# Altium footprint library BC817W.PcbLib: 3 footprints
Each footprint in its own frame and in the unit in brackets; x right, y up, seen from the top. Pads: shape width x height; smd on the part's side, far side on the other; paste and mask are expansions set on the pad; w line width, h text height; cw(c..) or ccw(c..) is an arc to the next point about the centre after c.
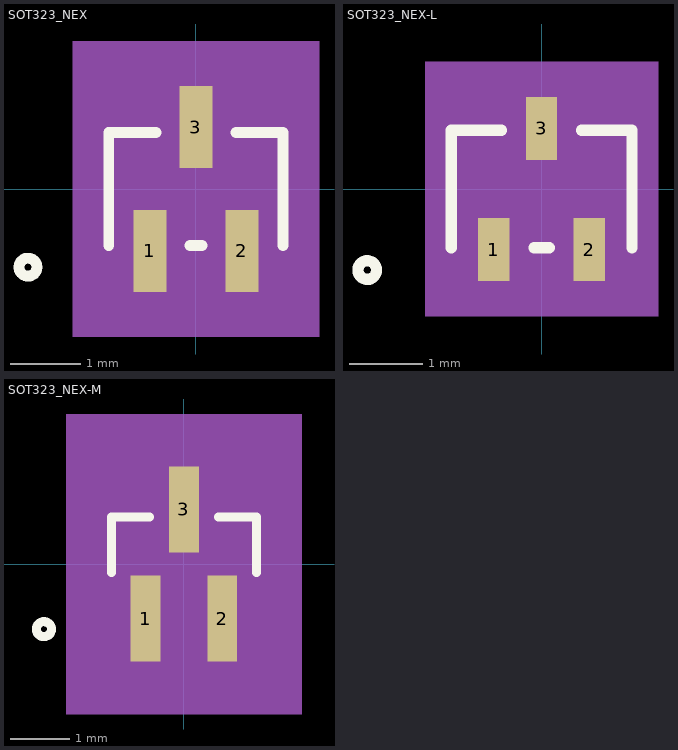
[diagram p0: the footprints below, top view; thin cyan lines are the x and y axes]

## SOT323_NEX [mil]
pads (3):
  rect 18.36x45.56 smd paste+0 mask+0: 1(-25.59,-34.5) 2(25.59,-34.5) 3(0,34.5)
Top Overlay:
  circle w6: c-93.5,-43.5 r5
  lines w6: -48.5,-31.5 -48.5,31.5 -22.28,31.5 ; -3.31,-31.5 3.31,-31.5 ; 22.28,31.5 48.5,31.5 48.5,-31.5
Mechanical 5:
  region: -68.5,82.28 68.5,82.28 68.5,-82.28 -68.5,-82.28
Mechanical 13:
  circle w0: c-33.5,-16.5 r5
  lines w1: -43.5,-26.5 43.5,-26.5 43.5,26.5 -43.5,26.5 -43.5,-26.5 ; -33.59,-43.5 -33.59,-26.5 -17.59,-26.5 -17.59,-43.5 -33.59,-43.5 ; -8,26.5 8,26.5 8,43.5 -8,43.5 -8,26.5 ; 17.59,-43.5 17.59,-26.5 33.59,-26.5 33.59,-43.5 17.59,-43.5
Mechanical 15:
  region: -53.5,-36.5 -53.5,36.5 -19.18,36.5 -19.18,67.28 19.18,67.28 19.18,36.5 53.5,36.5 53.5,-36.5 44.77,-36.5 44.77,-67.28 -44.77,-67.28 -44.77,-36.5
  region: 43.5,-26.5 -43.5,-26.5 -43.5,26.5 43.5,26.5
  lines w6: -53.5,-36.5 -53.5,36.5 -19.18,36.5 -19.18,67.28 19.18,67.28 19.18,36.5 53.5,36.5 53.5,-36.5 44.77,-36.5 44.77,-67.28 -44.77,-67.28 -44.77,-36.5 -53.5,-36.5
3D body "SOT323_NEX.step": height 44.09, standoff 0, extent -43.5,-43.5 43.5,43.5

## SOT323_NEX-L [mm]
pads (3):
  rect 0.426x0.857 smd paste+0 mask+0: 1(-0.65,-0.826) 2(0.65,-0.826) 3(0,0.826)
Top Overlay:
  circle w0.152: c-2.375,-1.105 r0.127
  lines w0.152: -1.232,-0.8 -1.232,0.8 -0.546,0.8 ; -0.104,-0.8 0.104,-0.8 ; 0.546,0.8 1.232,0.8 1.232,-0.8
Mechanical 5:
  region: -1.587,1.737 1.587,1.737 1.587,-1.737 -1.587,-1.737
Mechanical 13:
  circle w0: c-0.851,-0.419 r0.127
  lines w0.025: -1.105,-0.673 1.105,-0.673 1.105,0.673 -1.105,0.673 -1.105,-0.673 ; -0.853,-1.105 -0.853,-0.673 -0.447,-0.673 -0.447,-1.105 -0.853,-1.105 ; -0.203,0.673 0.203,0.673 0.203,1.105 -0.203,1.105 -0.203,0.673 ; 0.447,-1.105 0.447,-0.673 0.853,-0.673 0.853,-1.105 0.447,-1.105
Mechanical 15:
  region: -1.206,-0.775 -1.206,0.775 -0.315,0.775 -0.315,1.356 0.315,1.356 0.315,0.775 1.206,0.775 1.206,-0.775 0.965,-0.775 0.965,-1.356 -0.965,-1.356 -0.965,-0.775
  region: 1.105,-0.673 -1.105,-0.673 -1.105,0.673 1.105,0.673
  lines w0.152: -1.206,-0.775 -1.206,0.775 -0.315,0.775 -0.315,1.356 0.315,1.356 0.315,0.775 1.206,0.775 1.206,-0.775 0.965,-0.775 0.965,-1.356 -0.965,-1.356 -0.965,-0.775 -1.206,-0.775
3D body "SOT323_NEX.step": height 1.12, standoff 0, extent -1.105,-1.105 1.105,1.105

## SOT323_NEX-M [mm]
pads (3):
  rect 0.506x1.457 smd paste+0 mask+0: 1(-0.65,-0.926) 2(0.65,-0.926) 3(0,0.926)
Top Overlay:
  circle w0.152: c-2.375,-1.105 r0.127
  lines w0.152: -1.232,-0.146 -1.232,0.8 -0.586,0.8 ; 0.586,0.8 1.232,0.8 1.232,-0.146
Mechanical 5:
  region: -1.994,2.544 1.994,2.544 1.994,-2.544 -1.994,-2.544
Mechanical 13:
  circle w0: c-0.851,-0.419 r0.127
  lines w0.025: -1.105,-0.673 1.105,-0.673 1.105,0.673 -1.105,0.673 -1.105,-0.673 ; -0.853,-1.105 -0.853,-0.673 -0.447,-0.673 -0.447,-1.105 -0.853,-1.105 ; -0.203,0.673 0.203,0.673 0.203,1.105 -0.203,1.105 -0.203,0.673 ; 0.447,-1.105 0.447,-0.673 0.853,-0.673 0.853,-1.105 0.447,-1.105
Mechanical 15:
  region: -1.613,-1.181 -1.613,1.181 -0.761,1.181 -0.761,2.163 0.761,2.163 0.761,1.181 1.613,1.181 1.613,-1.181 1.411,-1.181 1.411,-2.163 -1.411,-2.163 -1.411,-1.181
  region: 1.105,-0.673 -1.105,-0.673 -1.105,0.673 1.105,0.673
  lines w0.152: -1.613,-1.181 -1.613,1.181 -0.761,1.181 -0.761,2.163 0.761,2.163 0.761,1.181 1.613,1.181 1.613,-1.181 1.411,-1.181 1.411,-2.163 -1.411,-2.163 -1.411,-1.181 -1.613,-1.181
3D body "SOT323_NEX.step": height 1.12, standoff 0, extent -1.105,-1.105 1.105,1.105